# Altium schematic symbol library TL494CD.SchLib: 1 symbol
Pins are listed as number, name and electrical type; pins without a type are passive.

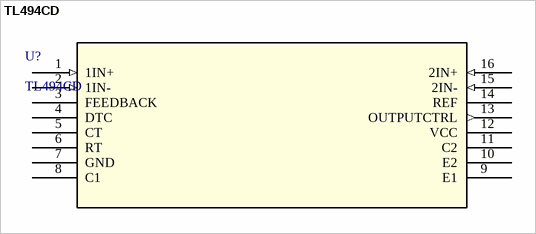
[diagram p0: symbol TL494CD]

## TL494CD
designator U?
No Description Available; Mfr_Name: Texas Instruments; Copyright: Copyright (C) 2022 Ultra Librarian. All rights reserved.; Manufacturer_Part_Number: TL494CD; RefDes: RefDes; Type: DEV
footprint D16
pins: 1 1IN+ (in), 2 1IN- (in), 3 FEEDBACK, 4 DTC, 5 CT, 6 RT, 7 GND (power), 8 C1, 9 E1, 10 E2, 11 C2, 12 VCC (power), 13 OUTPUTCTRL (out), 14 REF, 15 2IN- (in), 16 2IN+ (in)